# Altium schematic symbol library SIMBOLS_FA.SchLib: 21 symbols
Pins are listed as number, name and electrical type; pins without a type are passive.

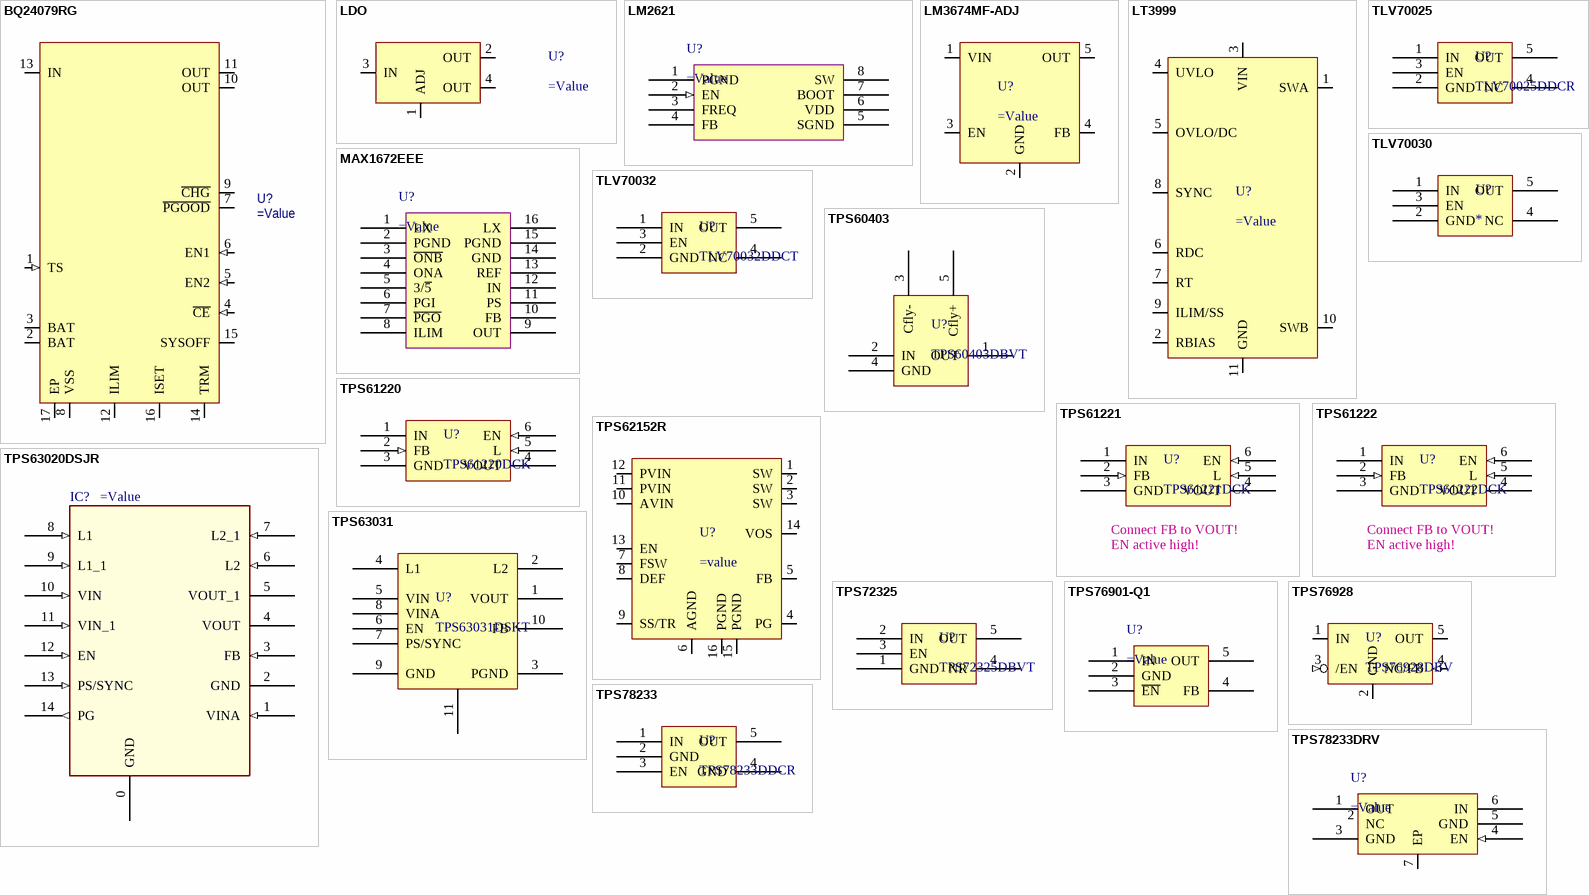
[diagram p0: symbols BQ24079RG to TPS78233DRV]

## BQ24079RG
designator U?
1.5A USB-Friendly Li-Ion Battery Charger and Power-Path Managerment; PartNumber: BQ24073RGTT; Manufacturer: TEXAS; target: LIPO; HelpURL: http://www.ti.com/lit/ds/symlink/bq24079.pdf; code1: *; code2: *; code3: *; code: BQ24073RGTT
pins: 1 TS (in) "External NTC Thermistor Input", 2 BAT (power) "Charger Power Stage Output and Battery Voltage Sense Input.", 3 BAT (power) "Charger Power Stage Output and Battery Voltage Sense Input.", 4 ~{CE} (in) "Charge Enable Active-Low Input", 5 EN2 (in) "Input Current Limit Configuration Inputs.", 6 EN1 (in) "Input Current Limit Configuration Inputs.", 7 ~{PGOOD} (oc) "Open-drain Power Good Status Indication Output", 8 VSS (power) "Ground", 9 ~{CHG} (oc) "Open-Drain Charging Status Indication Output", 10 OUT (power) "System Supply Output", 11 OUT (power) "System Supply Output", 12 ILIM "Ajustable Current Limit Programming Input", 13 IN (power) "Input Power Connection", 14 TRM "Timer Programming Input.", 15 SYSOFF "System Enable Input", 16 ISET "Fast Charge Current Programming Input", 17 EP "Thermal PAD"

## LDO
designator U?
pins: 1 ADJ, 2 OUT, 3 IN, 4 OUT

## LM2621
designator U?
pins: 1 PGND (power), 2 EN (in), 3 FREQ, 4 FB, 5 SGND (power), 6 VDD (power), 7 BOOT (power), 8 SW (power)

## LM3674MF-ADJ
designator U?
LM3674 2MHz, 600mA Step-Down DC-DC Converter in SOT-23
pins: 1 VIN, 2 GND, 3 EN, 4 FB, 5 OUT

## LT3999
designator U?
pins: 1 SWA, 2 RBIAS, 3 VIN, 4 UVLO, 5 OVLO/DC, 6 RDC, 7 RT, 8 SYNC, 9 ILIM/SS, 10 SWB, 11 GND

## MAX1672EEE
designator U?
pins: 1 LX (power), 2 PGND (power), 3 ~{ONB}, 4 ONA, 5 3/~{5}, 6 PGI, 7 ~{PGO}, 8 ILIM, 9 OUT (power), 10 FB, 11 PS (power), 12 IN (power), 13 REF, 14 GND (power), 15 PGND (power), 16 LX (power)

## TLV70025
designator U?, comment TLV70025DDCR
LDO, fixed 2V5
footprint 2V5-REG-moved-marker-SOT23-5AN (SOT23, 5-Leads, Body 2.9x1.6mm, Pitch 0.95mm, Lead Span 2.8mm, IPC Medium Density)
pins: 1 IN, 2 GND, 3 EN, 4 NC, 5 OUT

## TLV70030
designator U?
LDO, fixed 3V0
footprint SOT23-5AN (SOT23, 5-Leads, Body 2.9x1.6mm, Pitch 0.95mm, Lead Span 2.8mm, IPC Medium Density)
pins: 1 IN, 2 GND, 3 EN, 4 NC, 5 OUT

## TLV70032
designator U?, comment TLV70032DDCT
LDO, fixed 3V2
footprint SOT23-5AN (SOT23, 5-Leads, Body 2.9x1.6mm, Pitch 0.95mm, Lead Span 2.8mm, IPC Medium Density)
pins: 1 IN, 2 GND, 3 EN, 4 NC, 5 OUT

## TPS60403
designator U?, comment TPS60403DBVT
inverting charge pump
footprint SOT23-5AN (SOT23, 5-Leads, Body 2.9x1.6mm, Pitch 0.95mm, Lead Span 2.8mm, IPC Medium Density)
pins: 1 OUT, 2 IN, 3 Cfly-, 4 GND, 5 Cfly+

## TPS61220
designator U?, comment TPS61220DCK
LDO, variable 1V8-5V5; Part Number: TPS61220DCK
footprint TPS6122x (Footprint not found)
pins: 1 IN (power), 2 FB (in), 3 GND (power), 4 VOUT (power), 5 L (in), 6 EN (in)

## TPS61221
designator U?, comment TPS61221DCK
LDO, fixed 3V3; Part Number: TPS61221DCK
footprint TPS6122x (Footprint not found)
pins: 1 IN (power), 2 FB (in), 3 GND (power), 4 VOUT (power), 5 L (in), 6 EN (in)
text: Connect FB to VOUT! / EN active high!

## TPS61222
designator U?, comment TPS61222DCK
LDO, fixed 5V0; Part Number: TPS61222DCK
footprint TPS6122x (Footprint not found)
pins: 1 IN (power), 2 FB (in), 3 GND (power), 4 VOUT (power), 5 L (in), 6 EN (in)
text: Connect FB to VOUT! / EN active high!

## TPS62152R
designator U?
pins: 1 SW, 2 SW, 3 SW, 4 PG, 5 FB, 6 AGND, 7 FSW, 8 DEF, 9 SS/TR, 10 AVIN, 11 PVIN, 12 PVIN, 13 EN, 14 VOS, 15 PGND, 16 PGND

## TPS63020DSJR
designator IC?
High Efficiency Single Inductor Buck-Boost Converter with 4A Switch; Manufacturer: TEXAS; GENERIC_PART_NUMBER: TPS63020DSJT; Pkg Qty: 250; EDIFviewName: NORMAL; EDIForiginalOrigin: 30 -20; code: TPS63020DSJR; INDUSTRY_STD_PKG_TYPE: VSON; FAMILY_NAME: BUCK-BOOST REGULATOR; PIN_COUNT: 14; PACKAGE_DESIGNATOR: DSJ; Vendor: Texas Instruments; DeviceNumbering: Alpha; DeviceDesignator: A; DevicesInPackage: 1; trace: YES; target: BASE; Datasheet URL: http://www.ti.com/lit/gpn/TPS63020; Manufacturer_Part_Number: TPS63020DSJR; DevicesInView: 1; PackageName: TPS63020_DSJ_14
footprint DFN14
pins: 0 GND (power), 1 VINA (in), 2 GND (power), 3 FB (in), 4 VOUT (power), 5 VOUT_1 (power), 6 L2 (in), 7 L2_1 (in), 8 L1 (in), 9 L1_1 (in), 10 VIN (in), 11 VIN_1 (in), 12 EN (in), 13 PS/SYNC (in), 14 PG (out)

## TPS63031
designator U?, comment TPS63031DSKT
buck boost, fixed 3V3
footprint DFN10-2.5x2.5mm
pins: 1 VOUT, 2 L2, 3 PGND, 4 L1, 5 VIN, 6 EN, 7 PS/SYNC, 8 VINA, 9 GND, 10 FB, 11 Pad1

## TPS72325
designator U?, comment TPS72325DBVT
LDO, fixed -2V5
footprint SOT23-5AN (SOT23, 5-Leads, Body 2.9x1.6mm, Pitch 0.95mm, Lead Span 2.8mm, IPC Medium Density)
pins: 1 GND, 2 IN, 3 EN, 4 NR, 5 OUT

## TPS76901-Q1
designator U?
pins: 1 IN (power), 2 GND (power), 3 ~{EN}, 4 FB, 5 OUT (power)

## TPS76928
designator U?, comment TPS76928DBV
LDO, fixed 2V8; Manufacturer: Texas Instruments; Value: TPS76928DBV
footprint SOT23-5AN (SOT23, 5-Leads, Body 2.9x1.6mm, Pitch 0.95mm, Lead Span 2.8mm, IPC Medium Density)
pins: 1 IN (power), 2 GND (power), 3 /EN (in), 4 NC/FB (in), 5 OUT (power)

## TPS78233
designator U?, comment TPS78233DDCR
LDO, fixed 3V3; Part Number: TPS78233DDCR
footprint SOT23-5AN (SOT23, 5-Leads, Body 2.9x1.6mm, Pitch 0.95mm, Lead Span 2.8mm, IPC Medium Density)
pins: 1 IN, 2 GND, 3 EN, 4 GND, 5 OUT

## TPS78233DRV
designator U?
LDO, fixed 3V3
pins: 1 OUT (power), 2 NC, 3 GND (power), 4 EN (in), 5 GND (power), 6 IN (power), 7 EP (power)